# EAGLE library part PINHEAD-7 (library chuong)
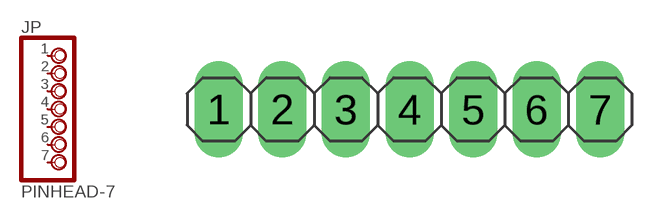
[diagram p34: symbol with the pads of PINHEAD-7; footprint PINHEAD-7]

Designator prefix JP

## PINHEAD-7  [PINHEAD-7]
1  1  pas
2  2  pas
3  3  pas
4  4  pas
5  5  pas
6  6  pas
7  7  pas

## Footprint PINHEAD-7 (pad centres in mm)
drill 0.813 pad 1.93 long: 1 -6.35,0; 2 -3.81,0; 3 -1.27,0; 4 1.27,0; 5 3.81,0; 6 6.35,0; 7 8.89,0